# Altium footprint library Klok.PcbLib: 23 footprints (part 2 of 2)
Each footprint in its own frame and in the unit in brackets; x right, y up, seen from the top. Pads: shape width x height; smd on the part's side, far side on the other; paste and mask are expansions set on the pad; w line width, h text height; cw(c..) or ccw(c..) is an arc to the next point about the centre after c.
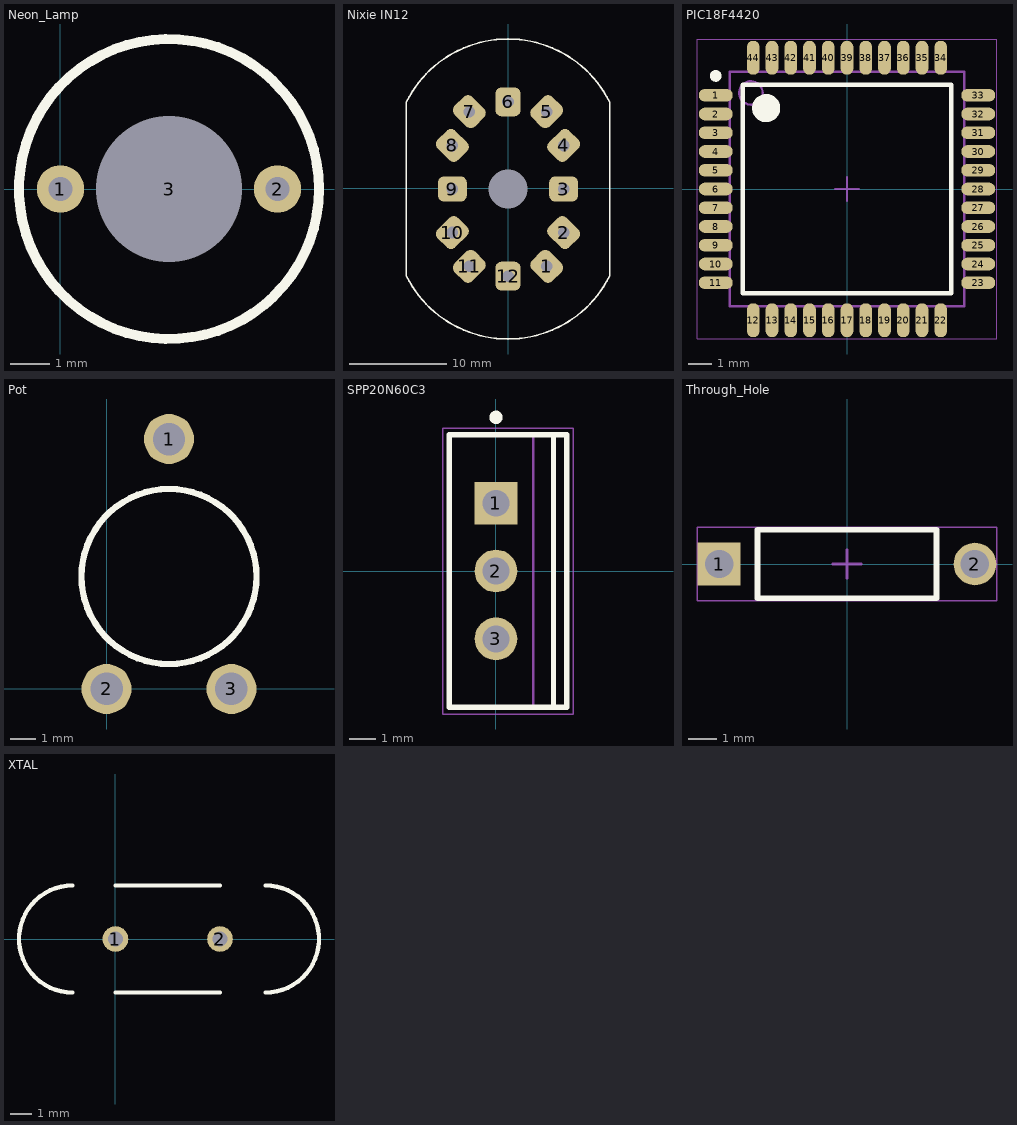
[diagram p1: the footprints below, top view; thin cyan lines are the x and y axes]

## Neon_Lamp [mm]
pads (3):
  round 1.2 hole 0.6: 1(0,0) 2(5.5,0)
  round 1.524 hole 3.7: 3(2.75,0)
Top Overlay:
  circle w0.254: c2.75,0 r3.8

## Nixie IN12 [mm]
pads (13):
  rrect50% 0x0 hole 4 unplated: 0(-0.05,-0.075)
  rrect50% 2.6x3 hole 1.2 rot 45: 1(3.95,-8.075) 2(5.7,-4.575) 7(-4.05,7.925) 8(-5.8,4.425)
  rrect50% 3x2.6 hole 1.2: 3(5.7,-0.075) 9(-5.8,-0.075)
  rrect50% 2.6x3 hole 1.2 rot 135: 4(5.7,4.425) 5(3.95,7.925) 10(-5.8,-4.575) 11(-4.05,-8.075)
  rrect50% 2.6x3 hole 1.2: 6(-0.05,8.925) 12(-0.05,-9.075)
Top Overlay:
  lines w0.178: -10.55,-9.075 ccw(c-0.05,-3.844) 10.45,-9.075 10.45,8.925 ccw(c-0.05,3.694) -10.55,8.925 -10.55,-9.075

## PIC18F4420 [mm]
pads (44):
  oval 1.45x0.55 smd: 1(-5.6,4) 2(-5.6,3.2) 3(-5.6,2.4) 4(-5.6,1.6) 5(-5.6,0.8) 6(-5.6,0) 7(-5.6,-0.8) 8(-5.6,-1.6) 9(-5.6,-2.4) 10(-5.6,-3.2) 11(-5.6,-4) 23(5.6,-4) 24(5.6,-3.2) 25(5.6,-2.4) 26(5.6,-1.6) 27(5.6,-0.8) 28(5.6,0) 29(5.6,0.8) 30(5.6,1.6) 31(5.6,2.4) 32(5.6,3.2) 33(5.6,4)
  oval 0.55x1.45 smd: 12(-4,-5.6) 13(-3.2,-5.6) 14(-2.4,-5.6) 15(-1.6,-5.6) 16(-0.8,-5.6) 17(0,-5.6) 18(0.8,-5.6) 19(1.6,-5.6) 20(2.4,-5.6) 21(3.2,-5.6) 22(4,-5.6) 34(4,5.6) 35(3.2,5.6) 36(2.4,5.6) 37(1.6,5.6) 38(0.8,5.6) 39(0,5.6) 40(-0.8,5.6) 41(-1.6,5.6) 42(-2.4,5.6) 43(-3.2,5.6) 44(-4,5.6)
Top Overlay:
  circle w0.25: c-5.6,4.825 r0.125
  circle w0.6: c-3.45,3.45 r0.3
  lines w0.2: -4.45,-4.45 -4.45,4.45 4.45,4.45 4.45,-4.45 -4.45,-4.45
Mechanical 13:
  circle w0.1: c-4.1,4.1 r0.5
  lines w0.1: -5,-5 -5,5 5,5 5,-5 -5,-5
Mechanical 15:
  lines w0.05: -6.4,-6.4 -6.4,6.4 6.4,6.4 6.4,-6.4 -6.4,-6.4
  lines w0.1: -0.5,0 0.5,0 ; 0,-0.5 0,0.5
3D body: height 1.2, standoff 0, extent -5,-5 5,5

## Pot [mm]
pads (3):
  round 2 / inner round 1.2 / far side round 2 hole 1.3: 1(2.5,10) 2(0,0) 3(5,0)
Top Overlay:
  circle w0.254: c2.5,4.5 r3.5

## SPP20N60C3 [mm]
pads (3):
  rect 1.6x1.6 hole 1: 1(0,2.54)
  round 1.6 hole 1: 2(0,0) 3(0,-2.54)
Top Overlay:
  circle w0.25: c0,5.75 r0.125
  lines w0.2: 2.15,-5.1 2.15,5.1 ; -1.75,-5.1 2.65,-5.1 2.65,5.1 -1.75,5.1 -1.75,-5.1
Mechanical 13:
  lines w0.1: 1.4,-5.1 1.4,5.1 ; -1.75,-5.1 -1.75,5.1 2.65,5.1 2.65,-5.1 -1.75,-5.1
Mechanical 15:
  lines w0.05: -2,-5.35 -2,5.35 2.9,5.35 2.9,-5.35 -2,-5.35
  lines w0.1: -0.5,0 0.5,0 ; 0,-0.5 0,0.5
3D body: height 4.35, standoff 0, extent -0.25,2.015 0.25,3.065
3D body: height 0, standoff -1.6, extent -0.25,2.165 0.25,2.915
3D body: height 4.35, standoff 0, extent -0.25,-0.525 0.25,0.525
3D body: height 0, standoff -1.6, extent -0.25,-0.375 0.25,0.375
3D body: height 4.35, standoff 0, extent -0.25,-3.065 0.25,-2.015
3D body: height 0, standoff -1.6, extent -0.25,-2.915 0.25,-2.165
3D body: height 14.3, standoff 4.35, extent -1.75,-5.1 2.65,5.1
3D body: height 16.08, standoff 14.3, extent 1.4,-4.95 2.65,4.95
3D body: height 16.12, standoff 16.08, extent 1.4,0.356 2.65,4.95
3D body: height 16.12, standoff 16.08, extent 1.4,-4.95 2.65,-0.356
3D body: height 19.73, standoff 19.69, extent 1.4,0.356 2.65,4.95
3D body: height 19.73, standoff 19.69, extent 1.4,-4.95 2.65,-0.356
3D body: height 16.22, standoff 16.11, extent 1.4,0.698 2.65,4.95
3D body: height 16.22, standoff 16.11, extent 1.4,-4.95 2.65,-0.698
3D body: height 19.69, standoff 19.59, extent 1.4,0.698 2.65,4.95
3D body: height 19.69, standoff 19.59, extent 1.4,-4.95 2.65,-0.698
3D body: height 16.39, standoff 16.21, extent 1.4,1.014 2.65,4.95
3D body: height 16.39, standoff 16.21, extent 1.4,-4.95 2.65,-1.014
3D body: height 19.59, standoff 19.42, extent 1.4,1.014 2.65,4.95
3D body: height 19.59, standoff 19.42, extent 1.4,-4.95 2.65,-1.014
3D body: height 16.61, standoff 16.38, extent 1.4,1.29 2.65,4.95
3D body: height 16.61, standoff 16.38, extent 1.4,-4.95 2.65,-1.29
3D body: height 19.42, standoff 19.19, extent 1.4,1.29 2.65,4.95
3D body: height 19.42, standoff 19.19, extent 1.4,-4.95 2.65,-1.29
3D body: height 16.89, standoff 16.61, extent 1.4,1.517 2.65,4.95
3D body: height 16.89, standoff 16.61, extent 1.4,-4.95 2.65,-1.517
3D body: height 19.2, standoff 18.91, extent 1.4,1.517 2.65,4.95
3D body: height 19.2, standoff 18.91, extent 1.4,-4.95 2.65,-1.517
3D body: height 17.21, standoff 16.89, extent 1.4,1.686 2.65,4.95
3D body: height 17.21, standoff 16.89, extent 1.4,-4.95 2.65,-1.686
3D body: height 18.92, standoff 18.6, extent 1.4,1.686 2.65,4.95
3D body: height 18.92, standoff 18.6, extent 1.4,-4.95 2.65,-1.686
3D body: height 17.55, standoff 17.2, extent 1.4,1.79 2.65,4.95
3D body: height 17.55, standoff 17.2, extent 1.4,-4.95 2.65,-1.79
3D body: height 18.6, standoff 18.26, extent 1.4,1.79 2.65,4.95
3D body: height 18.6, standoff 18.26, extent 1.4,-4.95 2.65,-1.79
3D body: height 17.9, standoff 17.54, extent 1.4,1.825 2.65,4.95
3D body: height 17.9, standoff 17.54, extent 1.4,-4.95 2.65,-1.825
3D body: height 18.26, standoff 17.9, extent 1.4,1.825 2.65,4.95
3D body: height 18.26, standoff 17.9, extent 1.4,-4.95 2.65,-1.825
3D body: height 20.7, standoff 19.73, extent 1.4,-4.95 2.65,4.95

## Through_Hole [mm]
pads (2):
  rect 1.5x1.5 hole 1: 1(-4.5,0)
  round 1.5 hole 1: 2(4.5,0)
Top Overlay:
  lines w0.2: -3.15,-1.2 3.15,-1.2 3.15,1.2 -3.15,1.2 -3.15,-1.2
Mechanical 13:
  lines w0.1: -3.15,-1.2 -3.15,1.2 3.15,1.2 3.15,-1.2 -3.15,-1.2
Mechanical 15:
  lines w0.05: -5.275,-1.3 5.275,-1.3 5.275,1.3 -5.275,1.3 -5.275,-1.3
  lines w0.1: -0.5,0 0.5,0 ; 0,-0.5 0,0.5
3D body: height 2.4, standoff 0, extent -3.15,-1.2 3.15,1.2

## XTAL [mm]
pads (2):
  round 1.2 hole 0.7: 1(0,0) 2(4.88,0)
Top Overlay:
  lines w0.2: -2,-2.5 cw(c-2,0) -2,2.5 ; 0,-2.5 4.88,-2.5 ; 0,2.5 4.88,2.5 ; 7,-2.5 ccw(c7,0) 7,2.5